# EAGLE library part JN5139-Z01-M00R1 (library jennic)
Jennic 5139 Zigbee Module
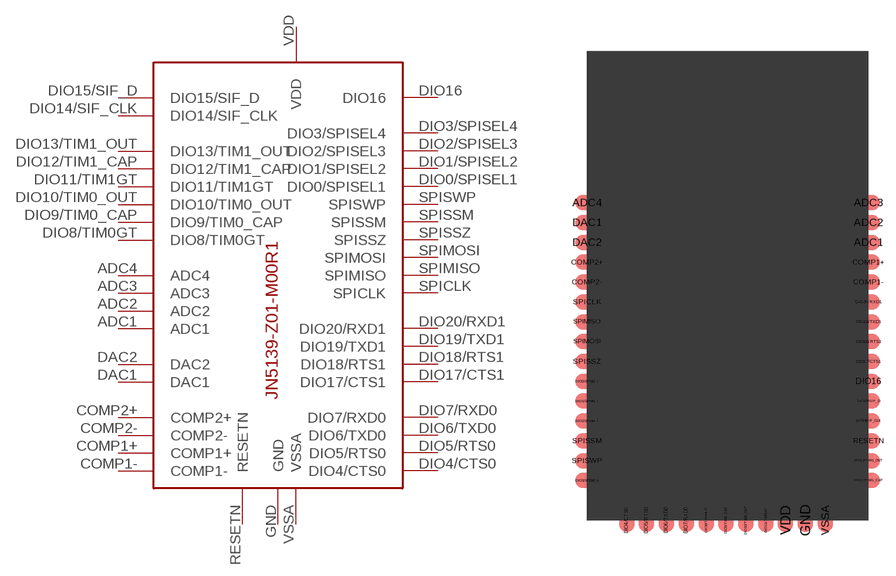
[diagram p0: symbol with the pads of JENNIC5139MODULE; footprint JENNIC5139MODULE]

Designator prefix -

## JN5139-Z01-M00R1  [JENNIC5139MODULE]
ADC1  ADC1  in
ADC2  ADC2  in
ADC3  ADC3  in
ADC4  ADC4  in
COMP1+  COMP1+  in
COMP1-  COMP1-  in
COMP2+  COMP2+  in
COMP2-  COMP2-  in
DAC1  DAC1  out
DAC2  DAC2  out
DIO0/SPISEL1  DIO0/SPISEL1
DIO1/SPISEL2  DIO1/SPISEL2
DIO2/SPISEL3  DIO2/SPISEL3
DIO3/SPISEL4  DIO3/SPISEL4
DIO4/CTS0  DIO4/CTS0
DIO5/RTS0  DIO5/RTS0
DIO6/TXD0  DIO6/TXD0
DIO7/RXD0  DIO7/RXD0
DIO8/TIM0GT  DIO8/TIM0GT
DIO9/TIM0_CAP  DIO9/TIM0_CAP
DIO10/TIM0_OUT  DIO10/TIM0_OUT
DIO11/TIM1GT  DIO11/TIM1GT
DIO12/TIM1_CAP  DIO12/TIM1_CAP
DIO13/TIM1_OUT  DIO13/TIM1_OUT
DIO14/SIF_CLK  DIO14/SIF_CLK
DIO15/SIF_D  DIO15/SIF_D
DIO16  DIO16
DIO17/CTS1  DIO17/CTS1
DIO18/RTS1  DIO18/RTS1
DIO19/TXD1  DIO19/TXD1
DIO20/RXD1  DIO20/RXD1
GND  GND  pwr
RESETN  RESETN  in
SPICLK  SPICLK  out
SPIMISO  SPIMISO  in
SPIMOSI  SPIMOSI  out
SPISSM  SPISSM  in
SPISSZ  SPISSZ  out
SPISWP  SPISWP  in
VDD  VDD  pwr
VSSA  VSSA  pwr

## Footprint JENNIC5139MODULE (pad centres in mm)
Footprint for the Jennic 5139 based modules
smd 1.5 x 1: ADC1 18,17.78; ADC2 18,19.05; ADC3 18,20.32; ADC4 0,20.32; COMP1+ 18,16.51; COMP1- 18,15.24; COMP2+ 0,16.51; COMP2- 0,15.24; DAC1 0,19.05; DAC2 0,17.78; DIO0/SPISEL1 0,8.89; DIO1/SPISEL2 0,7.62; DIO2/SPISEL3 0,6.35; DIO3/SPISEL4 0,2.54; DIO12/TIM1_CAP 18,2.54; DIO13/TIM1_OUT 18,3.81; DIO14/SIF_CLK 18,6.35; DIO15/SIF_D 18,7.62; DIO16 18,8.89; DIO17/CTS1 18,10.16; DIO18/RTS1 18,11.43; DIO19/TXD1 18,12.7; DIO20/RXD1 18,13.97; RESETN 18,5.08; SPICLK 0,13.97; SPIMISO 0,12.7; SPIMOSI 0,11.43; SPISSM 0,5.08; SPISSZ 0,10.16; SPISWP 0,3.81
smd 1 x 1.5: DIO4/CTS0 2.54,0; DIO5/RTS0 3.81,0; DIO6/TXD0 5.08,0; DIO7/RXD0 6.35,0; DIO8/TIM0GT 7.62,0; DIO9/TIM0_CAP 8.89,0; DIO10/TIM0_OUT 10.16,0; DIO11/TIM1GT 11.43,0; GND 13.97,0; VDD 12.7,0; VSSA 15.24,0